# EAGLE library part DAC_BREAKOUT_MCP4725 (library e-radionica_E-R MADE)
SKU: 100069 DAC, shortened from Digital to Analog Converter, is a digital device that provides an analog output voltage. Otherwise, most microcontrollers have PWM outputs, therefore outputs that simulate the analog voltage (in fact, it's just a fast signal change), while the DAC device really provides an analog voltage at its output. The DAC is most commonly used in sound-generating audio, but it can be used in a blanket application where a stable, accurate and accurate voltage is required. The MCP4725 on this breakout has the option of an output voltage from 0V (GND) to power supply voltage(up to 5.5V). It is a 12-bit device, which means that the output voltage can be distributed to 4096 steps. Connecting is really easy with I2C communication. • Voltage: 2.7V - 5.5V • Output voltage resolution: 12bit • Communication: I2C • EEPROM memory to permanently save the output voltage settings • Low consumption • Rail-to-rail output • Comes with a 6-pin header
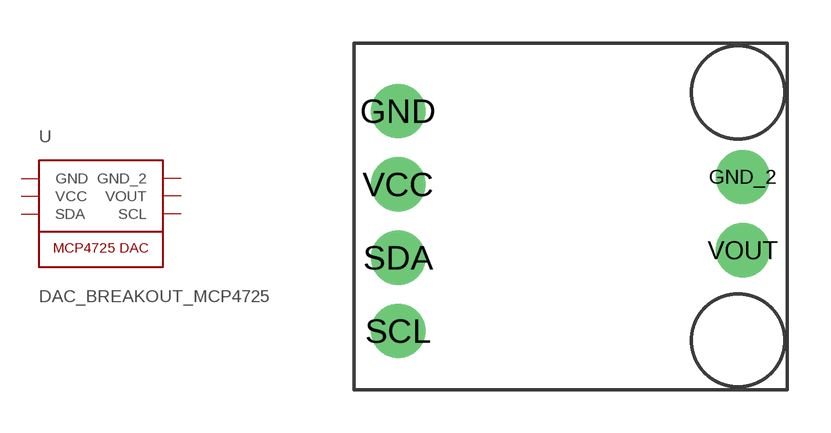
[diagram p3: symbol with the pads of DAC_BREAKOUT_MCP4725; footprint DAC_BREAKOUT_MCP4725]

Designator prefix -

## DAC_BREAKOUT_MCP4725  [DAC_BREAKOUT_MCP4725]
GND  GND  sup
GND_2  GND_2  sup
SCL  SCL
SDA  SDA
VCC  VCC  sup
VOUT  VOUT  sup

## Footprint DAC_BREAKOUT_MCP4725 (pad centres in mm)
drill 1.016 pad 1.88: GND 1.524,9.652; GND_2 13.462,7.366; SCL 1.524,2.032; SDA 1.524,4.572; VCC 1.524,7.112; VOUT 13.462,4.826